# EAGLE library part TEXAS_INSTRUMENTS-MICROCONTROLLER-TM4C1294NCPDTI3R (library Module_ICs)
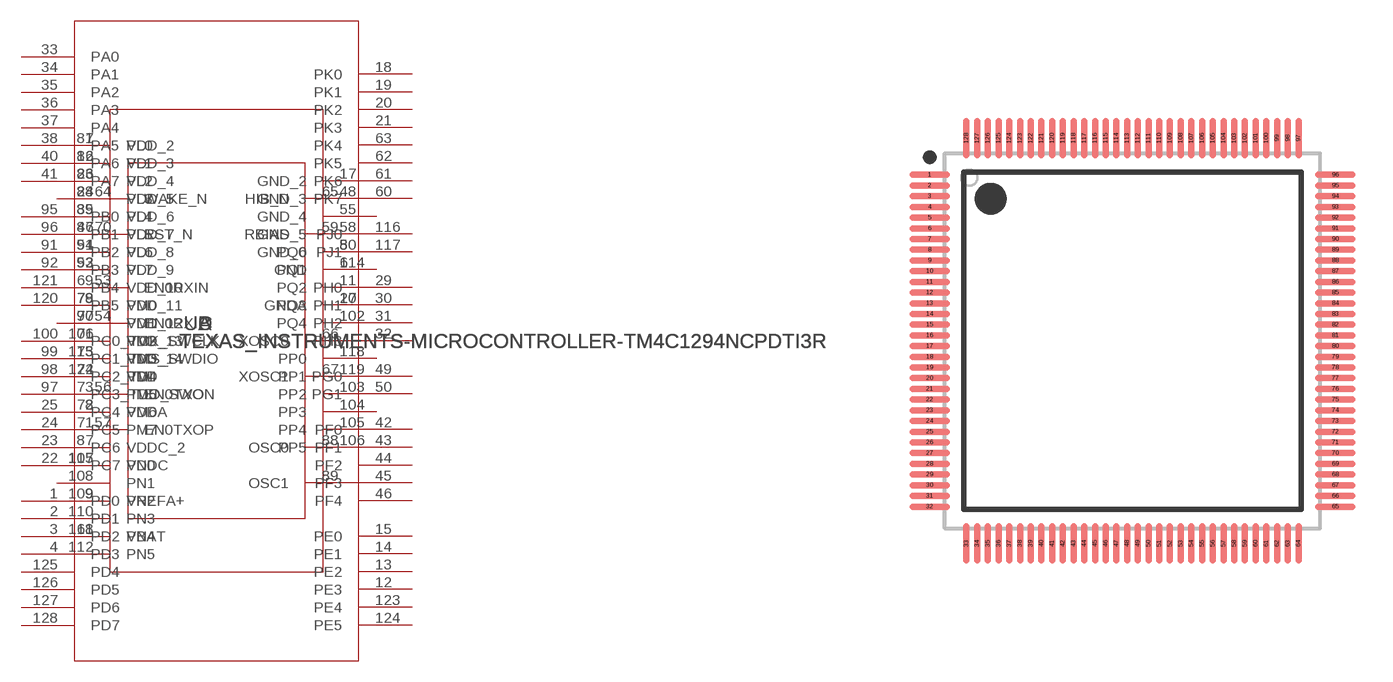
[diagram p3: symbol with the pads of TEXAS_INSTRUMENTS-MICROCONTROLLER-TM4C1294NCPDTI3R; footprint TEXAS_INSTRUMENTS-MICROCONTROLLER-TM4C1294NCPDTI3R]

Designator prefix U; gates A=TM4C1294NCPDTPDT_A B=TM4C1294NCPDTPDT_B C=TM4C1294NCPDTPDT_C D=TM4C1294NCPDTPDT_D

## TEXAS_INSTRUMENTS-MICROCONTROLLER-TM4C1294NCPDTI3R (ALTERNATEPARTNUMBER: TM4C1294NCPDTI3; APPLICATION_BUILDNUMBER: *; COMPTYPE: IC; MANUFACTURER: Texas Instruments; MOUNTTYPE: SMT; PACKAGEREFERENCE: PDT0128A; PARTNUMBER: TM4C1294NCPDTI3R; PIN_COUNT: 128; REFDES: RefDes; ROHS: Y; TYPE: TYPE; VALUE: Value)  [TEXAS_INSTRUMENTS-MICROCONTROLLER-TM4C1294NCPDTI3R]
1  A:PD0
2  A:PD1
3  A:PD2
4  A:PD3
5  B:PQ0
6  B:PQ1
7  D:VDD_2  pwr
8  D:VDDA  pwr
9  D:VREFA+  pwr
10  D:GNDA  pwr
11  B:PQ2
12  A:PE3
13  A:PE2
14  A:PE1
15  A:PE0
16  D:VDD_3  pwr
17  D:GND_2  pwr
18  A:PK0
19  A:PK1
20  A:PK2
21  A:PK3
22  A:PC7
23  A:PC6
24  A:PC5
25  A:PC4
26  D:VDD_4  pwr
27  B:PQ3
28  D:VDD_5  pwr
29  A:PH0
30  A:PH1
31  A:PH2
32  A:PH3
33  A:PA0
34  A:PA1
35  A:PA2
36  A:PA3
37  A:PA4
38  A:PA5
39  D:VDD_6  pwr
40  A:PA6
41  A:PA7
42  A:PF0
43  A:PF1
44  A:PF2
45  A:PF3
46  A:PF4
47  D:VDD_7  pwr
48  D:GND_3  pwr
49  A:PG0
50  A:PG1
51  D:VDD_8  pwr
52  D:VDD_9  pwr
53  C:EN0RXIN
54  C:EN0RXIP
55  D:GND_4  pwr
56  C:EN0TXON
57  C:EN0TXOP
58  D:GND_5  pwr
59  C:RBIAS  out
60  A:PK7
61  A:PK6
62  A:PK5
63  A:PK4
64  C:WAKE_N  in
65  C:HIB_N  out
66  C:XOSC0  in
67  C:XOSC1  out
68  D:VBAT  pwr
69  D:VDD_10  pwr
70  C:RST_N  in
71  B:PM7
72  B:PM6
73  B:PM5
74  B:PM4
75  B:PM3
76  B:PM2
77  B:PM1
78  B:PM0
79  D:VDD_11  pwr
80  D:GND_6  pwr
81  B:PL0
82  B:PL1
83  B:PL2
84  B:PL3
85  B:PL4
86  B:PL5
87  D:VDDC_2  pwr
88  C:OSC0  in
89  C:OSC1  out
90  D:VDD_12  pwr
91  A:PB2
92  A:PB3
93  B:PL7
94  B:PL6
95  A:PB0
96  A:PB1
97  A:PC3_TDO_SWO
98  A:PC2_TDI
99  A:PC1_TMS_SWDIO
100  A:PC0_TCK_SWCLK
101  D:VDD_13  pwr
102  B:PQ4
103  B:PP2
104  B:PP3
105  B:PP4
106  B:PP5
107  B:PN0
108  B:PN1
109  B:PN2
110  B:PN3
111  B:PN4
112  B:PN5
113  D:VDD_14  pwr
114  D:GND  pwr
115  D:VDDC  pwr
116  A:PJ0
117  A:PJ1
118  B:PP0
119  B:PP1
120  A:PB5
121  A:PB4
122  D:VDD  pwr
123  A:PE4
124  A:PE5
125  A:PD4
126  A:PD5
127  A:PD6
128  A:PD7

## Footprint TEXAS_INSTRUMENTS-MICROCONTROLLER-TM4C1294NCPDTI3R (pad centres in mm)
smd 1.51 x 0.24: 1 -7.575,6.2; 2 -7.575,5.8; 3 -7.575,5.4; 4 -7.575,5; 5 -7.575,4.6; 6 -7.575,4.2; 7 -7.575,3.8; 8 -7.575,3.4; 9 -7.575,3; 10 -7.575,2.6; 11 -7.575,2.2; 12 -7.575,1.8; 13 -7.575,1.4; 14 -7.575,1; 15 -7.575,0.6; 16 -7.575,0.2; 17 -7.575,-0.2; 18 -7.575,-0.6; 19 -7.575,-1; 20 -7.575,-1.4; 21 -7.575,-1.8; 22 -7.575,-2.2; 23 -7.575,-2.6; 24 -7.575,-3; 25 -7.575,-3.4; 26 -7.575,-3.8; 27 -7.575,-4.2; 28 -7.575,-4.6; 29 -7.575,-5; 30 -7.575,-5.4; 31 -7.575,-5.8; 32 -7.575,-6.2; 65 7.575,-6.2; 66 7.575,-5.8; 67 7.575,-5.4; 68 7.575,-5; 69 7.575,-4.6; 70 7.575,-4.2; 71 7.575,-3.8; 72 7.575,-3.4; 73 7.575,-3; 74 7.575,-2.6; 75 7.575,-2.2; 76 7.575,-1.8; 77 7.575,-1.4; 78 7.575,-1; 79 7.575,-0.6; 80 7.575,-0.2; 81 7.575,0.2; 82 7.575,0.6; 83 7.575,1; 84 7.575,1.4; 85 7.575,1.8; 86 7.575,2.2; 87 7.575,2.6; 88 7.575,3; 89 7.575,3.4; 90 7.575,3.8; 91 7.575,4.2; 92 7.575,4.6; 93 7.575,5; 94 7.575,5.4; 95 7.575,5.8; 96 7.575,6.2
smd 0.24 x 1.51: 33 -6.2,-7.575; 34 -5.8,-7.575; 35 -5.4,-7.575; 36 -5,-7.575; 37 -4.6,-7.575; 38 -4.2,-7.575; 39 -3.8,-7.575; 40 -3.4,-7.575; 41 -3,-7.575; 42 -2.6,-7.575; 43 -2.2,-7.575; 44 -1.8,-7.575; 45 -1.4,-7.575; 46 -1,-7.575; 47 -0.6,-7.575; 48 -0.2,-7.575; 49 0.2,-7.575; 50 0.6,-7.575; 51 1,-7.575; 52 1.4,-7.575; 53 1.8,-7.575; 54 2.2,-7.575; 55 2.6,-7.575; 56 3,-7.575; 57 3.4,-7.575; 58 3.8,-7.575; 59 4.2,-7.575; 60 4.6,-7.575; 61 5,-7.575; 62 5.4,-7.575; 63 5.8,-7.575; 64 6.2,-7.575; 97 6.2,7.575; 98 5.8,7.575; 99 5.4,7.575; 100 5,7.575; 101 4.6,7.575; 102 4.2,7.575; 103 3.8,7.575; 104 3.4,7.575; 105 3,7.575; 106 2.6,7.575; 107 2.2,7.575; 108 1.8,7.575; 109 1.4,7.575; 110 1,7.575; 111 0.6,7.575; 112 0.2,7.575; 113 -0.2,7.575; 114 -0.6,7.575; 115 -1,7.575; 116 -1.4,7.575; 117 -1.8,7.575; 118 -2.2,7.575; 119 -2.6,7.575; 120 -3,7.575; 121 -3.4,7.575; 122 -3.8,7.575; 123 -4.2,7.575; 124 -4.6,7.575; 125 -5,7.575; 126 -5.4,7.575; 127 -5.8,7.575; 128 -6.2,7.575